# EAGLE library part CAM_FEMALE (library cam_female)
Female connector for connecting raspi camera and breakout board
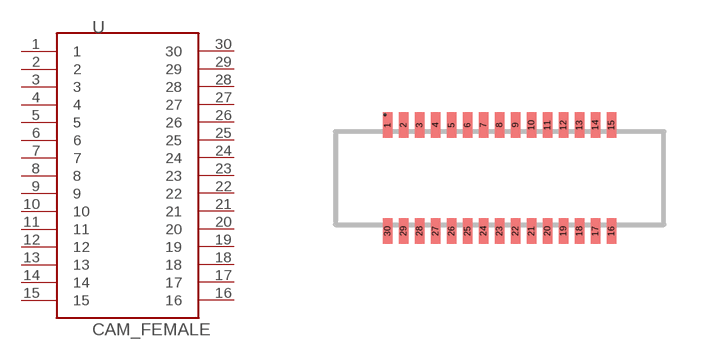
[diagram p0: symbol with the pads of CAM_FEMALE; footprint CAM_FEMALE]

Designator prefix U

## CAM_FEMALE  [CAM_FEMALE]
1  1
2  2
3  3
4  4
5  5
6  6
7  7
8  8
9  9
10  10
11  11
12  12
13  13
14  14
15  15
16  16
17  17
18  18
19  19
20  20
21  21
22  22
23  23
24  24
25  25
26  26
27  27
28  28
29  29
30  30

## Footprint CAM_FEMALE (pad centres in mm)
smd 0.23 x 0.63: 1 -2.8,1.325; 2 -2.4,1.325; 3 -2,1.325; 4 -1.6,1.325; 5 -1.2,1.325; 6 -0.8,1.325; 7 -0.4,1.325; 8 0,1.325; 9 0.4,1.325; 10 0.8,1.325; 11 1.2,1.325; 12 1.6,1.325; 13 2,1.325; 14 2.4,1.325; 15 2.8,1.325; 16 2.8,-1.325; 17 2.4,-1.325; 18 2,-1.325; 19 1.6,-1.325; 20 1.2,-1.325; 21 0.8,-1.325; 22 0.4,-1.325; 23 0,-1.325; 24 -0.4,-1.325; 25 -0.8,-1.325; 26 -1.2,-1.325; 27 -1.6,-1.325; 28 -2,-1.325; 29 -2.4,-1.325; 30 -2.8,-1.325